# EAGLE library part PCA9685 (library nxp)
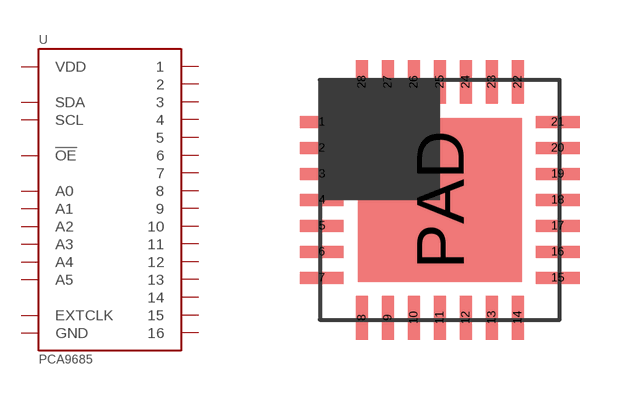
[diagram p4: symbol with the pads of HVQFN28; footprint HVQFN28]

Designator prefix -

## PCA9685  [HVQFN28]
1  A0
2  A1
3  A2
4  A3
5  A4
6  1
7  2
8  3
9  4
10  5
11  6
12  7
13  8
14  GND
15  9
16  10
17  11
18  12
19  13
20  14
21  15
22  16
23  !OE
24  A5
25  EXTCLK
26  SCL
27  SDA
28  VDD
PAD  GND

## Footprint HVQFN28 (pad centres in mm)
smd 1.1 x 0.3: 1 -2.95,1.95; 2 -2.95,1.3; 3 -2.95,0.65; 4 -2.95,0; 5 -2.95,-0.65; 6 -2.95,-1.3; 7 -2.95,-1.95; 15 2.95,-1.95; 16 2.95,-1.3; 17 2.95,-0.65; 18 2.95,0; 19 2.95,0.65; 20 2.95,1.3; 21 2.95,1.95
smd 0.3 x 1.1: 8 -1.95,-2.95; 9 -1.3,-2.95; 10 -0.65,-2.95; 11 0,-2.95; 12 0.65,-2.95; 13 1.3,-2.95; 14 1.95,-2.95; 22 1.95,2.95; 23 1.3,2.95; 24 0.65,2.95; 25 0,2.95; 26 -0.65,2.95; 27 -1.3,2.95; 28 -1.95,2.95
smd 4.1 x 4.1: PAD 0,0